# EAGLE library part AD9834 (library custom)
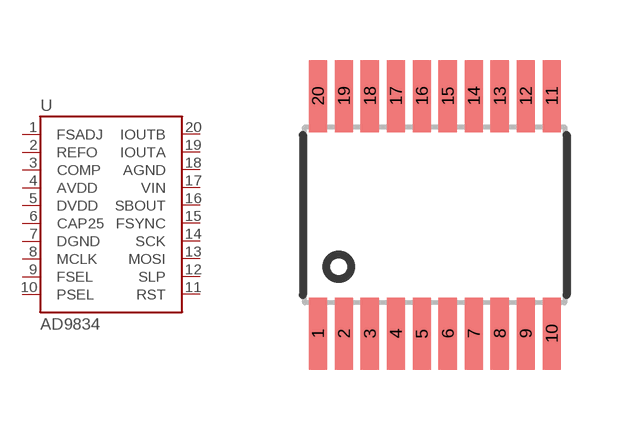
[diagram p36: symbol with the pads of 20-TSSOP; footprint 20-TSSOP]

Designator prefix -

## AD9834  [20-TSSOP]
1  FSADJ
2  REFO
3  COMP
4  AVDD
5  DVDD
6  CAP25
7  DGND
8  MCLK
9  FSEL
10  PSEL
11  RST
12  SLP
13  MOSI
14  SCK
15  FSYNC
16  SBOUT
17  VIN
18  AGND
19  IOUTA
20  IOUTB

## Footprint 20-TSSOP (pad centres in mm)
smd 0.45 x 1.8: 1 -2.925,-2.97; 2 -2.275,-2.97; 3 -1.625,-2.97; 4 -0.975,-2.97; 5 -0.325,-2.97; 6 0.325,-2.97; 7 0.975,-2.97; 8 1.625,-2.97; 9 2.275,-2.97; 10 2.925,-2.97; 11 2.925,2.97; 12 2.275,2.97; 13 1.625,2.97; 14 0.975,2.97; 15 0.325,2.97; 16 -0.325,2.97; 17 -0.975,2.97; 18 -1.625,2.97; 19 -2.275,2.97; 20 -2.925,2.97